# EAGLE library part PIR-DETECT-CONTROLLER (library FlashPCB_ICs)
PIR-DETECT-CONTROLLER - Passive Infrared Dectector Controller Technical Specifications: Detection: Single or Dual Pulse Direct Drive of LED and OUT Component Search: NCS36000DRG <https://www.flashpcb.com/components> Datasheet: NCS36000 Passive Infrared (PIR) Detector Controller <https://www.onsemi.com/pdf/datasheet/ncs36000-d.pdf>
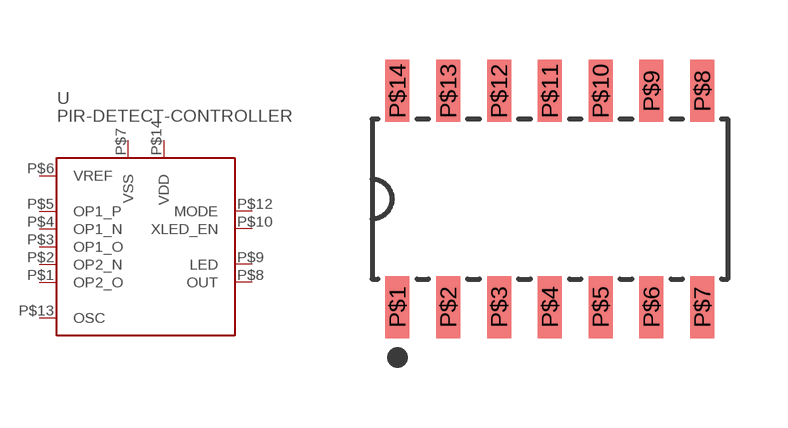
[diagram p71: symbol with the pads of SOIC-14-150MIL-3.9MM; footprint SOIC-14-150MIL-3.9MM]

Designator prefix U

## PIR-DETECT-CONTROLLERSOIC-14  [SOIC-14-150MIL-3.9MM]
P$1  OP2_O
P$2  OP2_N
P$3  OP1_O
P$4  OP1_N
P$5  OP1_P
P$6  VREF
P$7  VSS
P$8  OUT
P$9  LED
P$10  XLED_EN
P$12  MODE
P$13  OSC
P$14  VDD

## Footprint SOIC-14-150MIL-3.9MM (pad centres in mm)
smd 0.6 x 1.55: P$1 -3.81,-2.7; P$2 -2.54,-2.7; P$3 -1.27,-2.7; P$4 0,-2.7; P$5 1.27,-2.7; P$6 2.54,-2.7; P$7 3.81,-2.7; P$8 3.81,2.7; P$9 2.54,2.7; P$10 1.27,2.7; P$11 0,2.7; P$12 -1.27,2.7; P$13 -2.54,2.7; P$14 -3.81,2.7